# Altium footprint library PcbLib1.PcbLib: 3 footprints
Each footprint in its own frame and in the unit in brackets; x right, y up, seen from the top. Pads: shape width x height; smd on the part's side, far side on the other; paste and mask are expansions set on the pad; w line width, h text height; cw(c..) or ccw(c..) is an arc to the next point about the centre after c.
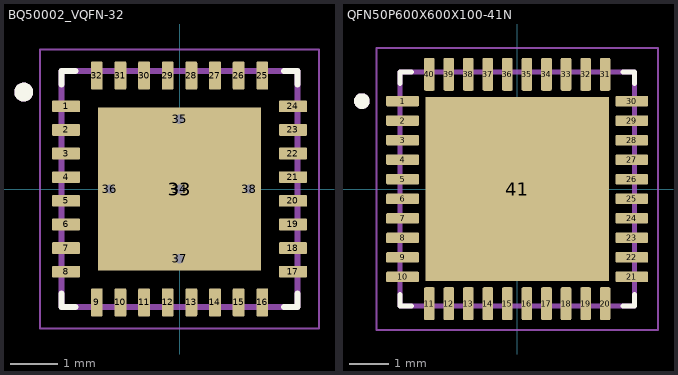
[diagram p0: the footprints below, top view; thin cyan lines are the x and y axes]

## BQ50002_VQFN-32 [mm]
pads (38):
  rrect25% 0.6x0.25 smd mask+0: 1(-2.4,1.75) 2(-2.4,1.25) 3(-2.4,0.75) 4(-2.4,0.25) 5(-2.4,-0.25) 6(-2.4,-0.75) 7(-2.4,-1.25) 8(-2.4,-1.75) 17(2.4,-1.75) 18(2.4,-1.25) 19(2.4,-0.75) 20(2.4,-0.25) 21(2.4,0.25) 22(2.4,0.75) 23(2.4,1.25) 24(2.4,1.75)
  rrect25% 0.25x0.6 smd mask+0: 9(-1.75,-2.4) 10(-1.25,-2.4) 11(-0.75,-2.4) 12(-0.25,-2.4) 13(0.25,-2.4) 14(0.75,-2.4) 15(1.25,-2.4) 16(1.75,-2.4) 25(1.75,2.4) 26(1.25,2.4) 27(0.75,2.4) 28(0.25,2.4) 29(-0.25,2.4) 30(-0.75,2.4) 31(-1.25,2.4) 32(-1.75,2.4)
  rect 3.45x3.45 smd paste-3 mask+0: 33(0,0)
  round 0.4 hole 0.2 mask+0: 34(0,0) 35(0,1.475) 36(-1.475,0) 37(0,-1.475) 38(1.475,0)
Top Overlay:
  circle w0.2: c-3.295,2.05 r0.1
  lines w0.127: -2.5,-2.205 -2.5,-2.5 -2.205,-2.5 ; -2.5,2.205 -2.5,2.5 -2.205,2.5 ; 2.205,-2.5 2.5,-2.5 2.5,-2.205 ; 2.205,2.5 2.5,2.5 2.5,2.205
Top Paste:
  region: 1.59,-1.59 0.1,-1.59 0.1,-0.1 1.59,-0.1
  region: -0.1,-1.59 -1.59,-1.59 -1.59,-0.1 -0.1,-0.1
  region: 1.59,0.1 0.1,0.1 0.1,1.59 1.59,1.59
  region: -0.1,0.1 -1.59,0.1 -1.59,1.59 -0.1,1.59
Top Solder:
  drawing of 33 lines, arcs and shapes, not listed
Mechanical 13:
  circle w0.2: c-3.295,2.05 r0.1
  lines w0.127: -2.5,-2.5 -2.5,2.5 2.5,2.5 2.5,-2.5 -2.5,-2.5
Mechanical 15:
  lines w0.05: -2.95,-2.95 -2.95,2.95 2.95,2.95 2.95,-2.95 -2.95,-2.95
3D body "BQ50002RHBT.STEP": height 1.01, standoff 0.01, extent -2.54,-2.5 2.46,2.5

## PCBComponent_1 [mm]

## QFN50P600X600X100-41N [mm]
pads (41):
  rrect25% 0.84x0.27 smd: 1(-2.935,2.25) 2(-2.935,1.75) 3(-2.935,1.25) 4(-2.935,0.75) 5(-2.935,0.25) 6(-2.935,-0.25) 7(-2.935,-0.75) 8(-2.935,-1.25) 9(-2.935,-1.75) 10(-2.935,-2.25) 21(2.935,-2.25) 22(2.935,-1.75) 23(2.935,-1.25) 24(2.935,-0.75) 25(2.935,-0.25) 26(2.935,0.25) 27(2.935,0.75) 28(2.935,1.25) 29(2.935,1.75) 30(2.935,2.25)
  rrect25% 0.27x0.84 smd: 11(-2.25,-2.935) 12(-1.75,-2.935) 13(-1.25,-2.935) 14(-0.75,-2.935) 15(-0.25,-2.935) 16(0.25,-2.935) 17(0.75,-2.935) 18(1.25,-2.935) 19(1.75,-2.935) 20(2.25,-2.935) 31(2.25,2.935) 32(1.75,2.935) 33(1.25,2.935) 34(0.75,2.935) 35(0.25,2.935) 36(-0.25,2.935) 37(-0.75,2.935) 38(-1.25,2.935) 39(-1.75,2.935) 40(-2.25,2.935)
  rect 4.7x4.7 smd paste-3: 41(0,0)
Top Overlay:
  circle w0.2: c-3.975,2.25 r0.1
  lines w0.127: -3,-2.705 -3,-3 -2.705,-3 ; -3,2.705 -3,3 -2.705,3 ; 2.705,-3 3,-3 3,-2.705 ; 2.705,3 3,3 3,2.705
Top Paste:
  region: -0.435,0.435 -1.915,0.435 -1.915,1.915 -0.435,1.915
  region: 1.915,0.435 0.435,0.435 0.435,1.915 1.915,1.915
  region: -0.435,-1.915 -1.915,-1.915 -1.915,-0.435 -0.435,-0.435
  region: 1.915,-1.915 0.435,-1.915 0.435,-0.435 1.915,-0.435
Mechanical 13:
  circle w0.2: c-3.975,2.25 r0.1
  lines w0.127: -3,-3 3,-3 3,3 -3,3 -3,-3
Mechanical 15:
  lines w0.05: -3.605,-3.605 3.605,-3.605 3.605,3.605 -3.605,3.605 -3.605,-3.605
3D body "step_temp.STEP": height 1, standoff 0, extent -3,-3 3,3